# Altium schematic symbol library IC_OPAMP_COMP.SchLib: 10 symbols
Pins are listed as number, name and electrical type; pins without a type are passive.

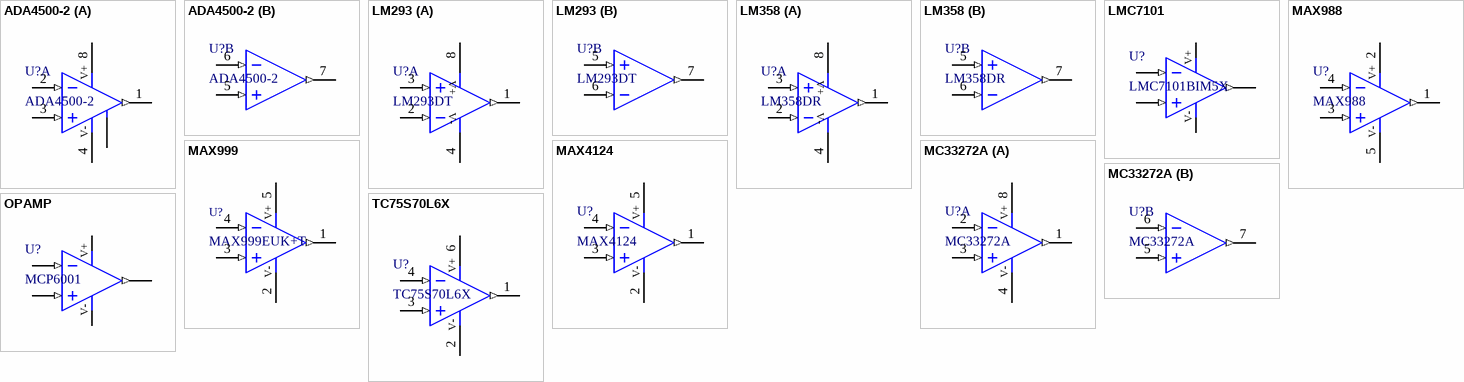
[diagram p0: symbols ADA4500-2 to TC75S70L6X]

## ADA4500-2
designator U?
CMOS Input/Output full swing comparator; Device: ADA4500-2
footprint DFN-8-0.5-3x3_TP (SON, 8-Leads, Body 3,00x3,00mm, Pitch 0,50mm, Thermal Pad 1,60x1,60mm, IPC Medium Density)
part A pins: 0 GND (power), 1 OUT (out), 2 IN- (in), 3 IN+ (in), 4 V- (power), 8 V+ (power)
part B pins: 5 IN+ (in), 6 IN- (in), 7 OUT (out)

## LM293
designator U?, comment LM293DT
Low Power Low Offset Voltage Dual Comparator; Name: LM293DT; HelpURL: http://www.ti.com/lit/ds/symlink/lm2903-n.pdf; Supplier: https://www.chipdip.ru/product/lm293d-stm
footprint SOIC-8
part A pins: 1 OUT (out), 2 IN- (in), 3 IN+ (in), 4 V- (power), 8 V+ (power)
part B pins: 5 IN+ (in), 6 IN- (in), 7 OUT (out)

## LM358
designator U?, comment LM358DR
Low Power Low Offset Voltage Dual Comparator; Name: LM358DR; HelpURL: https://www.ti.com/lit/ds/symlink/lm358b.pdf; Supplier: https://eu.mouser.com/ProductDetail/Texas-Instruments/LM358DR?qs=Zu35EjizYSSY6pJ37yjmHA%3D%3D
footprint SOIC-8
part A pins: 1 OUT (out), 2 IN- (in), 3 IN+ (in), 4 V- (power), 8 V+ (power)
part B pins: 5 IN+ (in), 6 IN- (in), 7 OUT (out)

## LMC7101
designator U?, comment LMC7101BIM5X
Rail to rail opamp; HelpURL: https://www.ti.com/lit/ds/symlink/lmc7101.pdf; Supplier: https://www.chipdip.ru/product/lmc7101bim5x-nopb; Name: LMC7101BIM5X
footprint SOT-23-5
pins: 1 OUT (out), 2 V+ (power), 3 IN+ (in), 4 IN- (in), 5 V- (power)

## MAX988
designator U?
Highspeed micropower low voltage R-R comparator; Datasheet: https://datasheets.maximintegrated.com/en/ds/MAX4122-MAX4129.pdf; Supplier: http://www.digikey.com/product-detail/en/maxim-integrated/MAX4124EUK-T/MAX4124EUK-TCT-ND/2699404; Price(1): 3.35; Price(100): 2.21
footprint SOT-23-5
pins: 1 OUT (out), 2 V+ (power), 3 IN+ (in), 4 IN- (in), 5 V- (power)

## MAX999
designator U?, comment MAX999EUK+T
Ultra-High-Speed, +3V/+5V, Beyond-the-Rails Comparator; HelpURL: https://datasheets.maximintegrated.com/en/ds/MAX961-MAX999.pdf; Supplier: https://www.chipdip.ru/product/max999euk-t; Name: MAX999EUK+T; BOMString: MAX999EUK+T
footprint SOT-23-5
pins: 1 OUT (out), 2 V- (power), 3 IN+ (in), 4 IN- (in), 5 V+ (power)

## MAX4124
designator U?
Wide Bandwidth Low Power R-R Opamp; Datasheet: https://datasheets.maximintegrated.com/en/ds/MAX4122-MAX4129.pdf; Supplier: http://www.digikey.com/product-detail/en/maxim-integrated/MAX4124EUK-T/MAX4124EUK-TCT-ND/2699404; Price(1): 4.19; Price(100): 2.77
footprint SOT-23-5
pins: 1 OUT (out), 2 V- (power), 3 IN+ (in), 4 IN- (in), 5 V+ (power)

## MC33272A
designator U?
Single Supply, High Slew Rate, Low Input Offset Voltage Operational Amplifiers; Device: MC33272A
footprint SOIC-8
part A pins: 1 OUT (out), 2 IN- (in), 3 IN+ (in), 4 V- (power), 8 V+ (power)
part B pins: 5 IN+ (in), 6 IN- (in), 7 OUT (out)

## OPAMP
designator U?, comment MCP6001
Rail to rail opamp; HelpURL: https://www.mouser.com/datasheet/2/268/21733h-26779.pdf; Supplier: https://www.chipdip.ru/product/mcp6001rt-i-ot-microchip; Price(1): 0.64; Price(100): 0.40170
footprint UFLGA6
footprint SOT-23-5; pin to pad 6>5
pins: 1 OUT (out), 2 V- (power), 3 IN+ (in), 4 IN- (in), 6 V+ (power)

## TC75S70L6X
designator U?
CMOS Input/Output full swing comparator; Datasheet: http://www.semicon.toshiba.co.jp/info/docget.jsp?type=datasheet&lang=en&pid=TC75S70L6X; Supplier: http://www.digikey.com/product-detail/en/toshiba-semiconductor-and-storage/TC75S70L6X,LF/TC75S70L6XLFCT-ND/4824177; Price(1): 0.64; Price(100): 0.40170
footprint UFLGA6
pins: 1 OUT (out), 2 V- (power), 3 IN+ (in), 4 IN- (in), 6 V+ (power)